# EAGLE library part PIC32MZ-EF-100 (library BW-Active)
32-bit 200MHz microcontroller, 100-pin
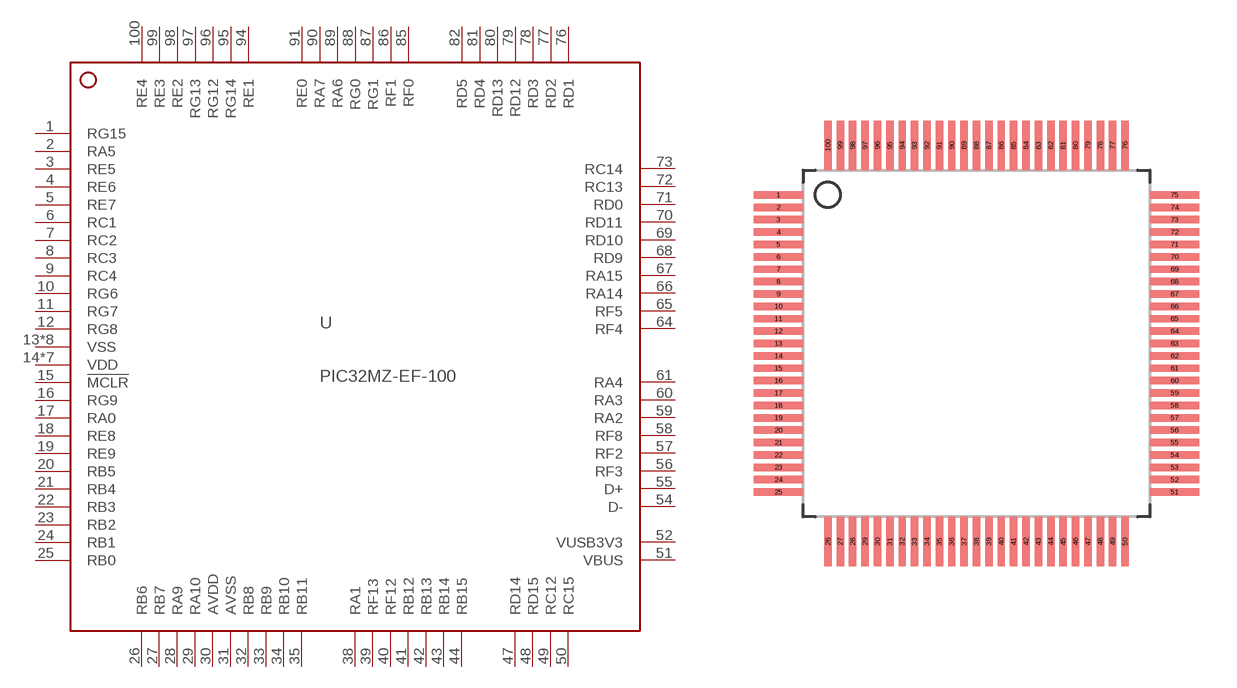
[diagram p31: symbol with the pads of TQFP100-14X14X1MM; footprint TQFP100-14X14X1MM]

Designator prefix U

## PIC32MZ-EF-100-I/PF  [TQFP100-14X14X1MM]
1  RG15
2  RA5
3  RE5
4  RE6
5  RE7
6  RC1
7  RC2
8  RC3
9  RC4
10  RG6
11  RG7
12  RG8
13  VSS
14  VDD
15  !MCLR
16  RG9
17  RA0
18  RE8
19  RE9
20  RB5
21  RB4
22  RB3
23  RB2
24  RB1
25  RB0
26  RB6
27  RB7
28  RA9
29  RA10
30  AVDD
31  AVSS
32  RB8
33  RB9
34  RB10
35  RB11
36  VSS
37  VDD
38  RA1
39  RF13
40  RF12
41  RB12
42  RB13
43  RB14
44  RB15
45  VSS
46  VDD
47  RD14
48  RD15
49  RC12
50  RC15
51  VBUS
52  VUSB3V3
53  VSS
54  D-
55  D+
56  RF3
57  RF2
58  RF8
59  RA2
60  RA3
61  RA4
62  VDD
63  VSS
64  RF4
65  RF5
66  RA14
67  RA15
68  RD9
69  RD10
70  RD11
71  RD0
72  RC13
73  RC14
74  VDD
75  VSS
76  RD1
77  RD2
78  RD3
79  RD12
80  RD13
81  RD4
82  RD5
83  VDD
84  VSS
85  RF0
86  RF1
87  RG1
88  RG0
89  RA6
90  RA7
91  RE0
92  VSS
93  VDD
94  RE1
95  RG14
96  RG12
97  RG13
98  RE2
99  RE3
100  RE4

## Footprint TQFP100-14X14X1MM (pad centres in mm)
smd 2 x 0.3: 1 -8,6; 2 -8,5.5; 3 -8,5; 4 -8,4.5; 5 -8,4; 6 -8,3.5; 7 -8,3; 8 -8,2.5; 9 -8,2; 10 -8,1.5; 11 -8,1; 12 -8,0.5; 13 -8,0; 14 -8,-0.5; 15 -8,-1; 16 -8,-1.5; 17 -8,-2; 18 -8,-2.5; 19 -8,-3; 20 -8,-3.5; 21 -8,-4; 22 -8,-4.5; 23 -8,-5; 24 -8,-5.5; 25 -8,-6; 51 8,-6; 52 8,-5.5; 53 8,-5; 54 8,-4.5; 55 8,-4; 56 8,-3.5; 57 8,-3; 58 8,-2.5; 59 8,-2; 60 8,-1.5; 61 8,-1; 62 8,-0.5; 63 8,0; 64 8,0.5; 65 8,1; 66 8,1.5; 67 8,2; 68 8,2.5; 69 8,3; 70 8,3.5; 71 8,4; 72 8,4.5; 73 8,5; 74 8,5.5; 75 8,6
smd 0.3 x 2: 26 -6,-8; 27 -5.5,-8; 28 -5,-8; 29 -4.5,-8; 30 -4,-8; 31 -3.5,-8; 32 -3,-8; 33 -2.5,-8; 34 -2,-8; 35 -1.5,-8; 36 -1,-8; 37 -0.5,-8; 38 0,-8; 39 0.5,-8; 40 1,-8; 41 1.5,-8; 42 2,-8; 43 2.5,-8; 44 3,-8; 45 3.5,-8; 46 4,-8; 47 4.5,-8; 48 5,-8; 49 5.5,-8; 50 6,-8; 76 6,8; 77 5.5,8; 78 5,8; 79 4.5,8; 80 4,8; 81 3.5,8; 82 3,8; 83 2.5,8; 84 2,8; 85 1.5,8; 86 1,8; 87 0.5,8; 88 0,8; 89 -0.5,8; 90 -1,8; 91 -1.5,8; 92 -2,8; 93 -2.5,8; 94 -3,8; 95 -3.5,8; 96 -4,8; 97 -4.5,8; 98 -5,8; 99 -5.5,8; 100 -6,8